# Altium integrated library MLZ2012M150WT000.IntLib: 1 symbol
Pins are listed as number, name and electrical type; pins without a type are passive.

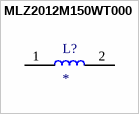
[diagram p0: symbol MLZ2012M150WT000]

## MLZ2012M150WT000
designator L?
Surface Mount High Frequency Inductor, MLZ Series, 15 H, 20%, 0805 [2012 Metric], 22 MHz; MP: MLZ2012M150WT000; Package: None; Price: None; Value: *; Availability: Unavailable
footprint INDC2012X87N
pins: 1, 2